# Altium schematic symbol library IS471FE.SchLib: 1 symbol
Pins are listed as number, name and electrical type; pins without a type are passive.

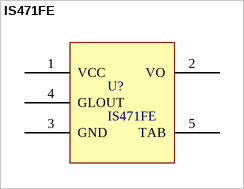
[diagram p0: symbol IS471FE]

## IS471FE
designator U?
footprint IS471FE
footprint IS471FE
pins: 1 VCC, 2 VO, 3 GND, 4 GLOUT, 5 TAB